# Altium integrated library Lattice FPGA XP.IntLib: 280 symbols (part 18 of 55)
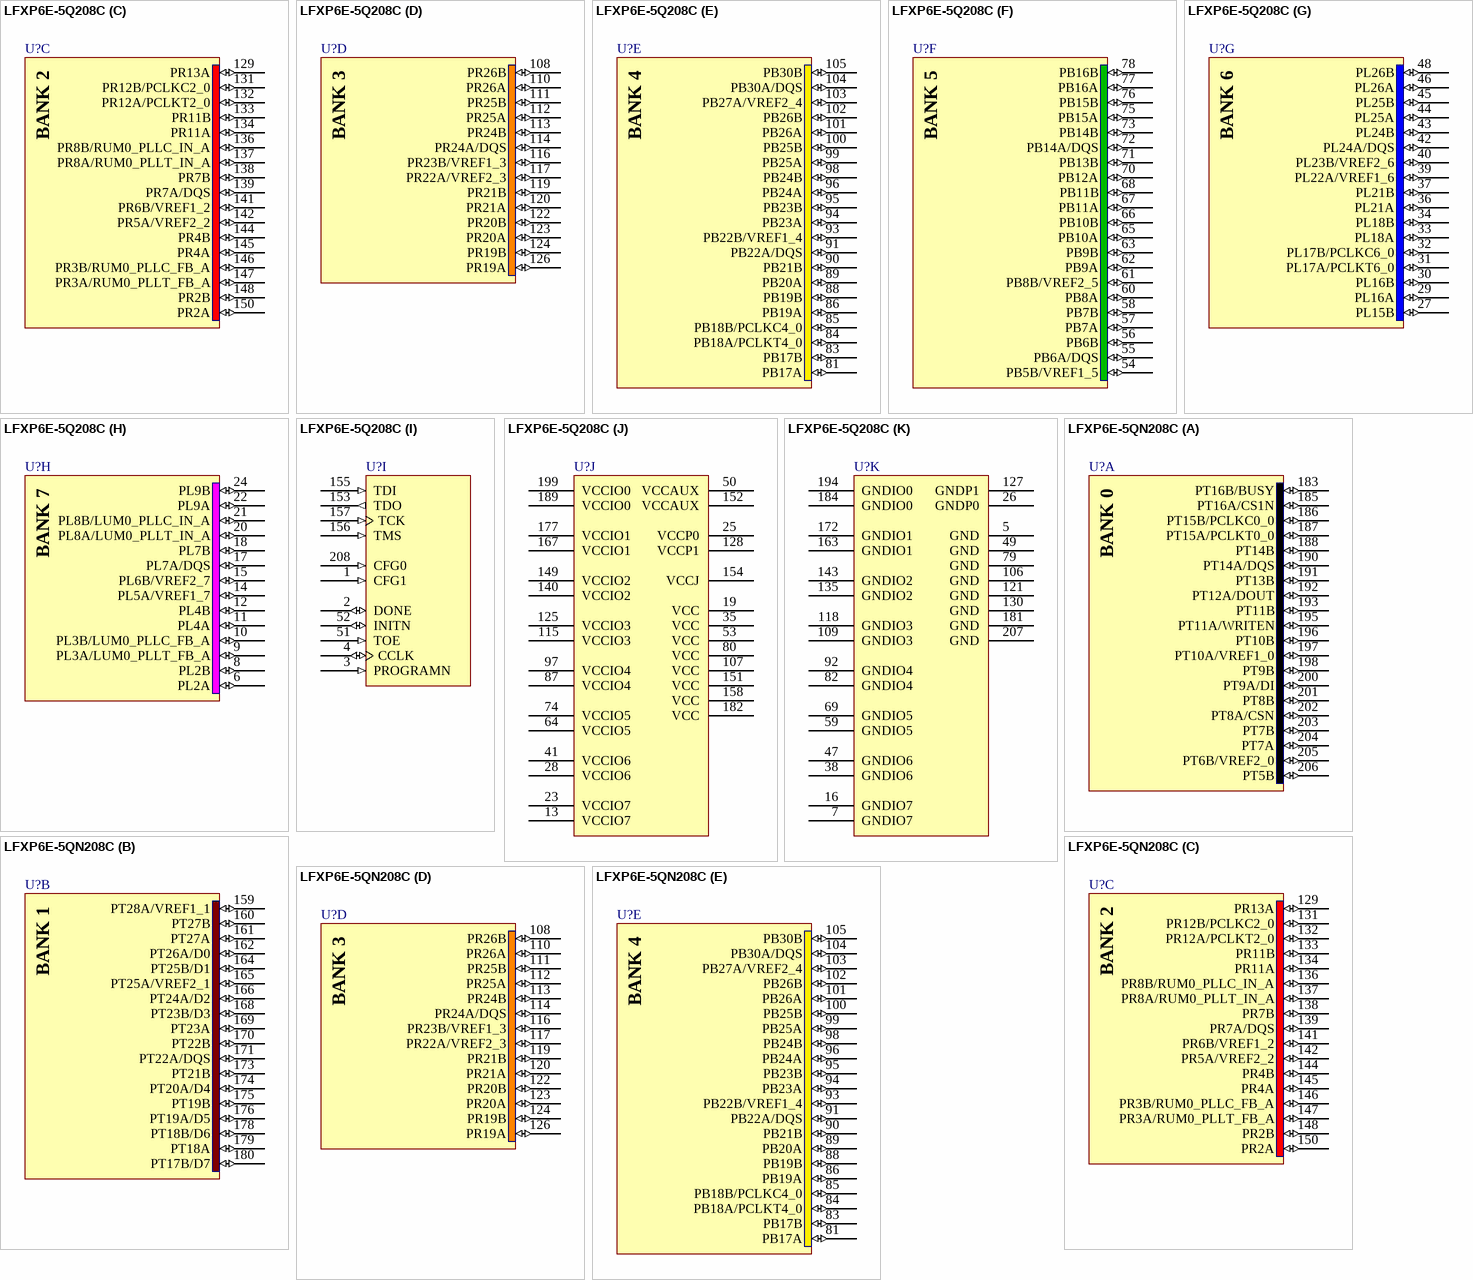
[diagram p360: symbols LFXP6E-5Q208C to LFXP6E-5QN208C]

## LFXP6E-5Q208C
designator U?
XP 1.2V FPGA, 142 I/Os, 6K LUTs, 208-Pin PQFP, Speed Grade 5, Commerical Grade; DatasheetVersion: ver05.1, Nov-2007; PackageVersion: ver01.8, Dec-2008; PackageReference: PQFP208; PackageDescription: 208-Pin Plastic Quad Flat Pack (PQFP208); Code_JEDEC: MO-143-FAI; ComponentLink1Description: Manufacturer URL; ComponentLink1URL: http://www.latticesemi.com/; ComponentLink2Description: Datasheet; ComponentLink2URL: http://www.latticesemi.com/lit/docs/datasheets/fpga/DS1001.pdf; ComponentLink3Description: Package Specification; ComponentLink3URL: http://www.latticesemi.com/lit/docs/package/pkg.pdf
footprint PQFP208_N (Shrink QFP, 208-Leads, Body 28x28mm, Pitch 0.5mm, IPC Medium Density)
footprint PQFP208_L (Shrink QFP, 208-Leads, Body 28x28mm, Pitch 0.5mm, IPC High Density)
footprint PQFP208_M (Shrink QFP, 208-Leads, Body 28x28mm, Pitch 0.5mm, IPC Low Density)
part A pins: 183 PT16B/BUSY (io), 185 PT16A/CS1N (io), 186 PT15B/PCLKC0_0 (io), 187 PT15A/PCLKT0_0 (io), 188 PT14B (io), 190 PT14A/DQS (io), 191 PT13B (io), 192 PT12A/DOUT (io), 193 PT11B (io), 195 PT11A/WRITEN (io), 196 PT10B (io), 197 PT10A/VREF1_0 (io), 198 PT9B (io), 200 PT9A/DI (io), 201 PT8B (io), 202 PT8A/CSN (io), 203 PT7B (io), 204 PT7A (io), 205 PT6B/VREF2_0 (io), 206 PT5B (io)
part B pins: 159 PT28A/VREF1_1 (io), 160 PT27B (io), 161 PT27A (io), 162 PT26A/D0 (io), 164 PT25B/D1 (io), 165 PT25A/VREF2_1 (io), 166 PT24A/D2 (io), 168 PT23B/D3 (io), 169 PT23A (io), 170 PT22B (io), 171 PT22A/DQS (io), 173 PT21B (io), 174 PT20A/D4 (io), 175 PT19B (io), 176 PT19A/D5 (io), 178 PT18B/D6 (io), 179 PT18A (io), 180 PT17B/D7 (io)
part C pins: 129 PR13A (io), 131 PR12B/PCLKC2_0 (io), 132 PR12A/PCLKT2_0 (io), 133 PR11B (io), 134 PR11A (io), 136 PR8B/RUM0_PLLC_IN_A (io), 137 PR8A/RUM0_PLLT_IN_A (io), 138 PR7B (io), 139 PR7A/DQS (io), 141 PR6B/VREF1_2 (io), 142 PR5A/VREF2_2 (io), 144 PR4B (io), 145 PR4A (io), 146 PR3B/RUM0_PLLC_FB_A (io), 147 PR3A/RUM0_PLLT_FB_A (io), 148 PR2B (io), 150 PR2A (io)
part D pins: 108 PR26B (io), 110 PR26A (io), 111 PR25B (io), 112 PR25A (io), 113 PR24B (io), 114 PR24A/DQS (io), 116 PR23B/VREF1_3 (io), 117 PR22A/VREF2_3 (io), 119 PR21B (io), 120 PR21A (io), 122 PR20B (io), 123 PR20A (io), 124 PR19B (io), 126 PR19A (io)
part E pins: 81 PB17A (io), 83 PB17B (io), 84 PB18A/PCLKT4_0 (io), 85 PB18B/PCLKC4_0 (io), 86 PB19A (io), 88 PB19B (io), 89 PB20A (io), 90 PB21B (io), 91 PB22A/DQS (io), 93 PB22B/VREF1_4 (io), 94 PB23A (io), 95 PB23B (io), 96 PB24A (io), 98 PB24B (io), 99 PB25A (io), 100 PB25B (io), 101 PB26A (io), 102 PB26B (io), 103 PB27A/VREF2_4 (io), 104 PB30A/DQS (io), 105 PB30B (io)
part F pins: 54 PB5B/VREF1_5 (io), 55 PB6A/DQS (io), 56 PB6B (io), 57 PB7A (io), 58 PB7B (io), 60 PB8A (io), 61 PB8B/VREF2_5 (io), 62 PB9A (io), 63 PB9B (io), 65 PB10A (io), 66 PB10B (io), 67 PB11A (io), 68 PB11B (io), 70 PB12A (io), 71 PB13B (io), 72 PB14A/DQS (io), 73 PB14B (io), 75 PB15A (io), 76 PB15B (io), 77 PB16A (io), 78 PB16B (io)
part G pins: 27 PL15B (io), 29 PL16A (io), 30 PL16B (io), 31 PL17A/PCLKT6_0 (io), 32 PL17B/PCLKC6_0 (io), 33 PL18A (io), 34 PL18B (io), 36 PL21A (io), 37 PL21B (io), 39 PL22A/VREF1_6 (io), 40 PL23B/VREF2_6 (io), 42 PL24A/DQS (io), 43 PL24B (io), 44 PL25A (io), 45 PL25B (io), 46 PL26A (io), 48 PL26B (io)
part H pins: 6 PL2A (io), 8 PL2B (io), 9 PL3A/LUM0_PLLT_FB_A (io), 10 PL3B/LUM0_PLLC_FB_A (io), 11 PL4A (io), 12 PL4B (io), 14 PL5A/VREF1_7 (io), 15 PL6B/VREF2_7 (io), 17 PL7A/DQS (io), 18 PL7B (io), 20 PL8A/LUM0_PLLT_IN_A (io), 21 PL8B/LUM0_PLLC_IN_A (io), 22 PL9A (io), 24 PL9B (io)
part I pins: 1 CFG1 (in), 2 DONE (io), 3 PROGRAMN (in), 4 CCLK (io), 51 TOE (in), 52 INITN (io), 153 TDO (out), 155 TDI (in), 156 TMS (in), 157 TCK (in), 208 CFG0 (in)
part J pins: 13 VCCIO7 (power), 19 VCC (power), 23 VCCIO7 (power), 25 VCCP0 (power), 28 VCCIO6 (power), 35 VCC (power), 41 VCCIO6 (power), 50 VCCAUX (power), 53 VCC (power), 64 VCCIO5 (power), 74 VCCIO5 (power), 80 VCC (power), 87 VCCIO4 (power), 97 VCCIO4 (power), 107 VCC (power), 115 VCCIO3 (power), 125 VCCIO3 (power), 128 VCCP1 (power), 140 VCCIO2 (power), 149 VCCIO2 (power), 151 VCC (power), 152 VCCAUX (power), 154 VCCJ (power), 158 VCC (power), 167 VCCIO1 (power), 177 VCCIO1 (power), 182 VCC (power), 189 VCCIO0 (power), 199 VCCIO0 (power)
part K pins: 5 GND (power), 7 GNDIO7 (power), 16 GNDIO7 (power), 26 GNDP0 (power), 38 GNDIO6 (power), 47 GNDIO6 (power), 49 GND (power), 59 GNDIO5 (power), 69 GNDIO5 (power), 79 GND (power), 82 GNDIO4 (power), 92 GNDIO4 (power), 106 GND (power), 109 GNDIO3 (power), 118 GNDIO3 (power), 121 GND (power), 127 GNDP1 (power), 130 GND (power), 135 GNDIO2 (power), 143 GNDIO2 (power), 163 GNDIO1 (power), 172 GNDIO1 (power), 181 GND (power), 184 GNDIO0 (power), 194 GNDIO0 (power), 207 GND (power)
part A text: BANK 0
part B text: BANK 1
part C text: BANK 2
part D text: BANK 3
part E text: BANK 4
part F text: BANK 5
part G text: BANK 6
part H text: BANK 7

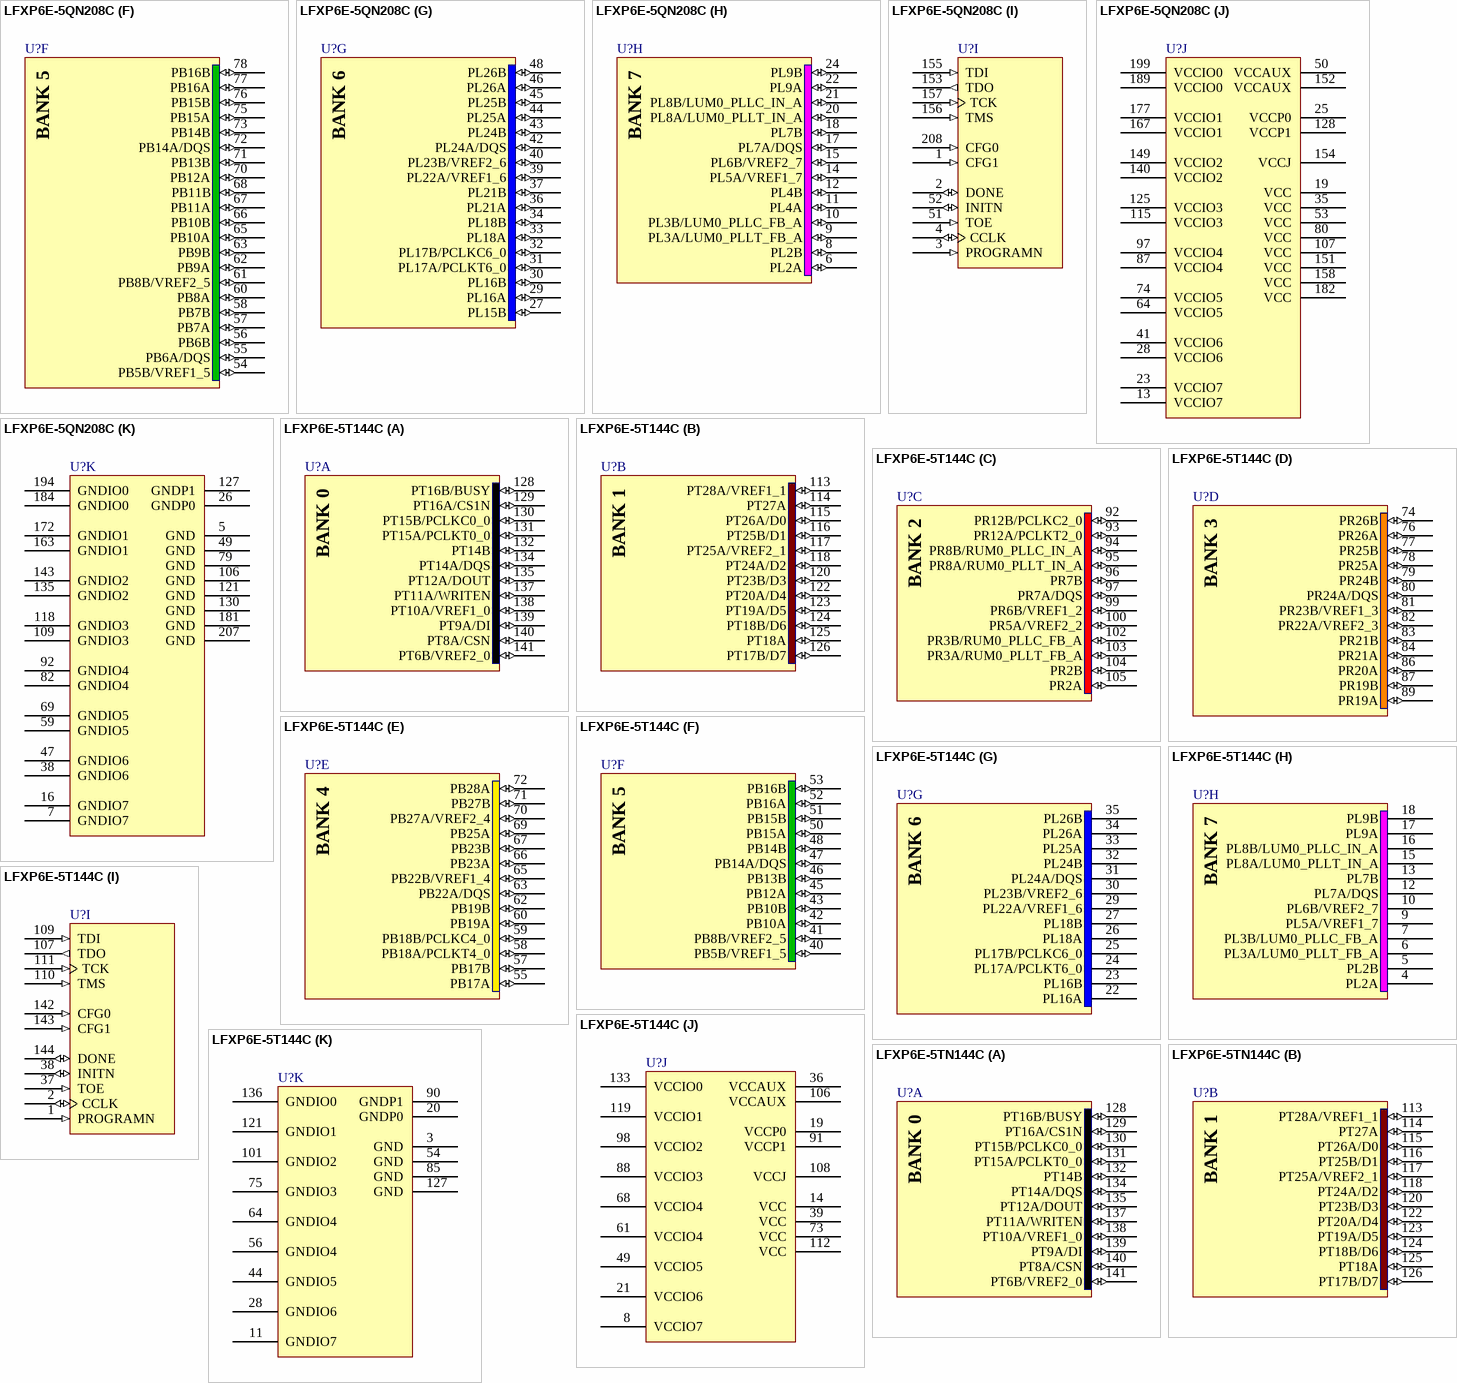
[diagram p71: symbols LFXP6E-5QN208C to LFXP6E-5TN144C]